# Altium schematic symbol library MBurstSCH.SchLib: 24 symbols
Pins are listed as number, name and electrical type; pins without a type are passive.

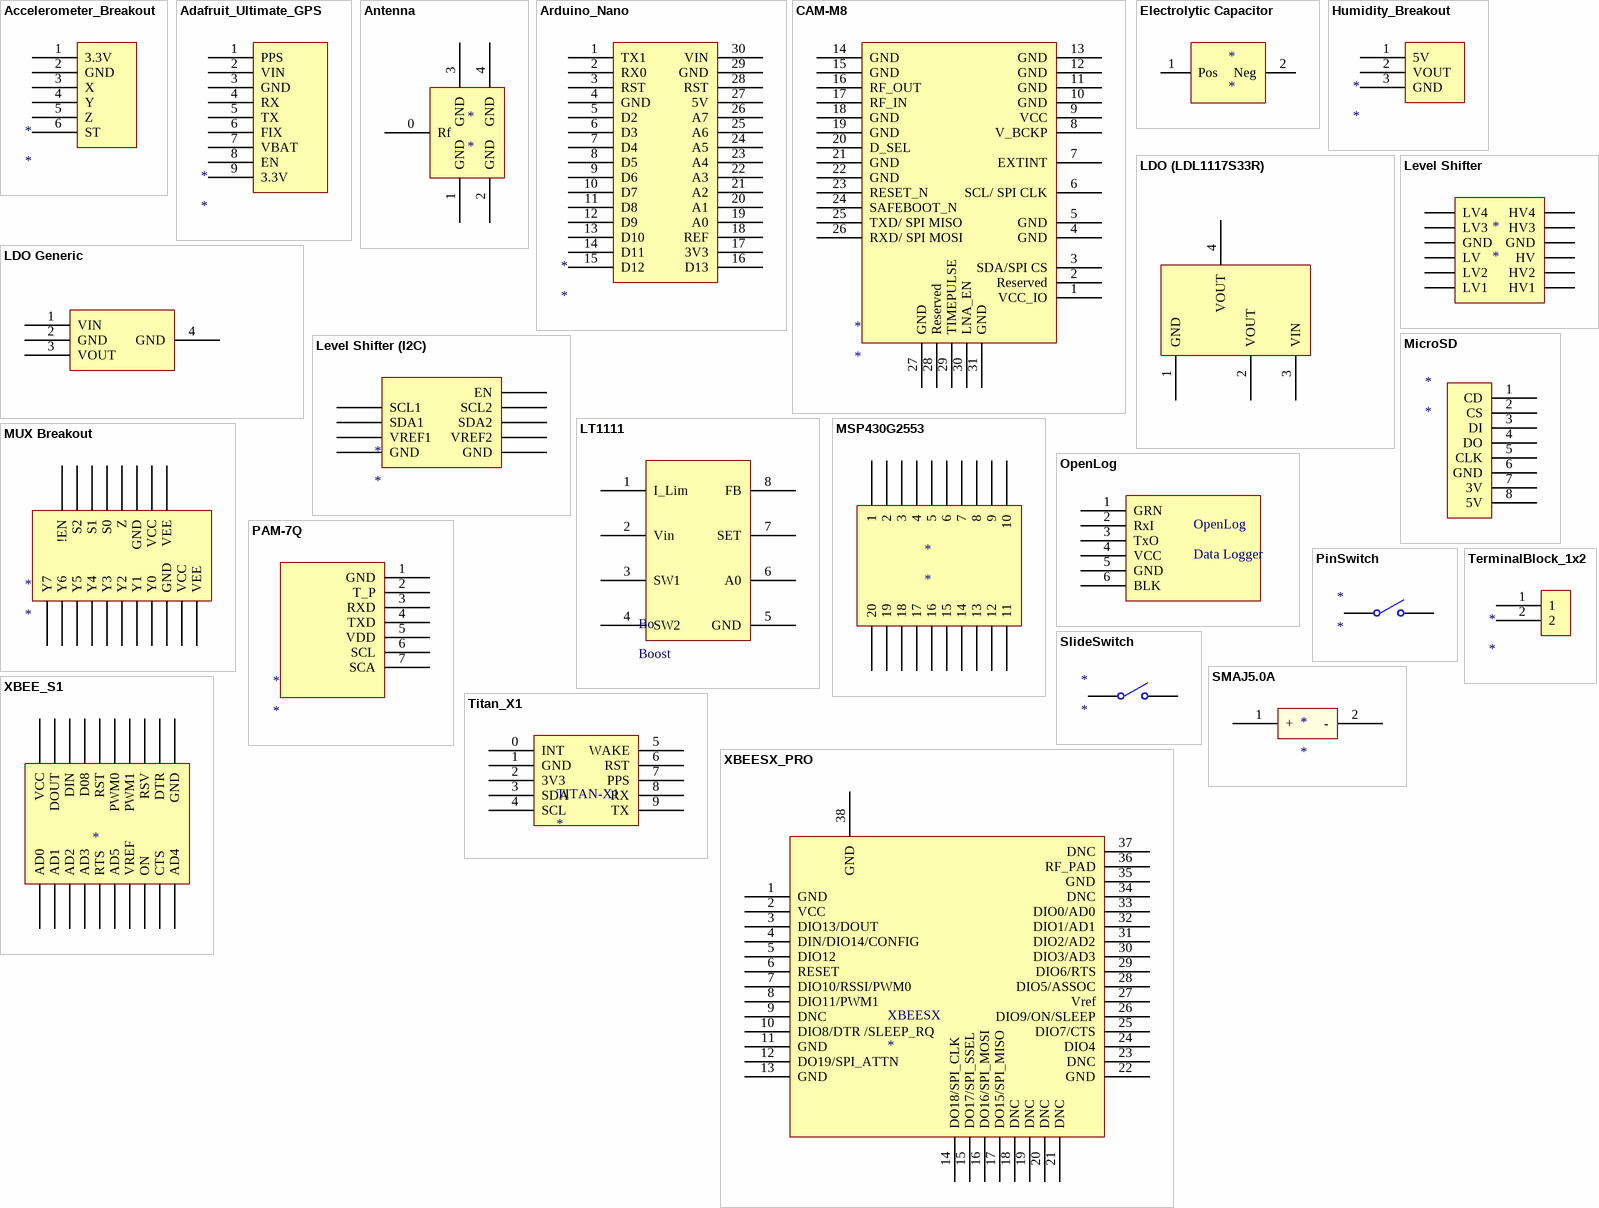
[diagram p0: symbols Accelerometer_Breakout to XBEESX_PRO]

## Accelerometer_Breakout
designator *
footprint Accelerometer_Breakout
pins: 1 3.3V, 2 GND, 3 X, 4 Y, 5 Z, 6 ST

## Adafruit_Ultimate_GPS
designator *
footprint Adafruit_Ultimate_GPS (Adafruit GPS Breakout Board)
pins: 1 PPS, 2 VIN, 3 GND, 4 RX, 5 TX, 6 FIX, 7 VBAT, 8 EN, 9 3.3V

## Antenna
designator *
footprint Antenna
pins: 0 Rf, 1 GND, 2 GND, 3 GND, 4 GND

## Arduino_Nano
designator *
footprint Arduino_Nano
pins: 1 TX1, 2 RX0, 3 RST, 4 GND, 5 D2, 6 D3, 7 D4, 8 D5, 9 D6, 10 D7, 11 D8, 12 D9, 13 D10, 14 D11, 15 D12, 16 D13, 17 3V3, 18 REF, 19 A0, 20 A1, 21 A2, 22 A3, 23 A4, 24 A5, 25 A6, 26 A7, 27 5V, 28 RST, 29 GND, 30 VIN

## CAM-M8
designator *
GPS
pins: 1 VCC_IO, 2 Reserved, 3 SDA/SPI CS, 4 GND, 5 GND, 6 SCL/ SPI CLK, 7 EXTINT, 8 V_BCKP, 9 VCC, 10 GND, 11 GND, 12 GND, 13 GND, 14 GND, 15 GND, 16 RF_OUT, 17 RF_IN, 18 GND, 19 GND, 20 D_SEL, 21 GND, 22 GND, 23 RESET_N, 24 SAFEBOOT_N, 25 TXD/ SPI MISO, 26 RXD/ SPI MOSI, 27 GND, 28 Reserved, 29 TIMEPULSE, 30 LNA_EN, 31 GND

## Electrolytic Capacitor
designator *
footprint Electrolytic Capacitor
pins: 1 Pos, 2 Neg

## Humidity_Breakout
designator *
footprint Humidity_Breakout
pins: 1 5V, 2 VOUT, 3 GND

## LDO (LDL1117S33R)
designator U?, comment TLV1117LV30
footprint SOT223-4N (SOT223, 4-Leads, Body 6.5x3.5mm, Pitch 2.3mm, Lead Span 7mm, IPC Medium Density)
pins: 1 GND, 2 VOUT, 3 VIN, 4 VOUT

## LDO Generic
designator U?, comment TLV1117LV30
footprint SOT223-4N (SOT223, 4-Leads, Body 6.5x3.5mm, Pitch 2.3mm, Lead Span 7mm, IPC Medium Density)
pins: 1 VIN, 2 GND, 3 VOUT, 4 GND

## Level Shifter
designator *
footprint Level Shifter (1X06)
pins: 1 LV4, 2 LV3, 3 GND, 4 LV, 5 LV2, 6 LV1, 7 HV4, 8 HV3, 9 GND, 10 HV, 11 HV2, 12 HV1

## Level Shifter (I2C)
designator *
SparkFun Level Translator Breakout - PCA9306
footprint Level Shifter (1X06)
pins: ?1 SCL1, ?2 SDA1, ?3 VREF1, ?4 GND, ?5 EN, ?6 SCL2, ?7 SDA2, ?8 VREF2, ?9 GND

## LT1111
designator Bo, comment Boost
footprint SO-8
pins: 1 I_Lim, 2 Vin, 3 SW1, 4 SW2, 5 GND, 6 A0, 7 SET, 8 FB

## MicroSD
designator *
pins: 1 CD, 2 CS, 3 DI, 4 DO, 5 CLK, 6 GND, 7 3V, 8 5V

## MSP430G2553
designator *
pins: 1, 2, 3, 4, 5, 6, 7, 8, 9, 10, 11, 12, 13, 14, 15, 16, 17, 18, 19, 20

## MUX Breakout
designator *
footprint MUX Breakout
pins: 1 Y7, 2 Y6, 3 Y5, 4 Y4, 5 Y3, 6 Y2, 7 Y1, 8 Y0, 9 GND, 10 VCC, 11 VEE, 12 !EN, 13 S2, 14 S1, 15 S0, 16 Z, 17 GND, 18 VCC, 19 VEE

## OpenLog
designator OpenLog, comment Data Logger
footprint OpenLog
pins: 1 GRN "OpenLog", 2 RxI "OpenLog", 3 TxO "OpenLog", 4 VCC "OpenLog", 5 GND "OpenLog", 6 BLK "OpenLog"

## PAM-7Q
designator *
GPS
footprint PAM7Q
pins: 1 GND, 2 T_P, 3 RXD, 4 TXD, 5 VDD, 6 SCL, 7 SCA

## PinSwitch
designator *
footprint SwitchPin
pins: 0 COMMON, 1 NO

## SlideSwitch
designator *
footprint SlideSwitch
pins: 0 COMMON, 1 NO

## SMAJ5.0A
designator *
Circuit Protection Diode
footprint SMAJ5.0A
pins: 1 +, 2 -

## TerminalBlock_1x2
designator *
pins: 1, 2

## Titan_X1
designator TITAN-X1
pins: 0 INT, 1 GND, 2 3V3, 3 SDA, 4 SCL, 5 WAKE, 6 RST, 7 PPS, 8 RX, 9 TX

## XBEE_S1
designator ?
pins: 1 VCC, 2 DOUT, 3 DIN, 4 D08, 5 RST, 6 PWM0, 7 PWM1, 8 RSV, 9 DTR, 10 GND, 11 AD4, 12 CTS, 13 ON, 14 VREF, 15 AD5, 16 RTS, 17 AD3, 18 AD2, 19 AD1, 20 AD0

## XBEESX_PRO
designator XBEESX
footprint XBEESX_PRO (SOP, 32-Leads, Body 33.78x19.10mm, Pitch 2.00mm, IPC Medium Density)
pins: 1 GND, 2 VCC, 3 DIO13/DOUT, 4 DIN/DIO14/CONFIG, 5 DIO12, 6 RESET, 7 DIO10/RSSI/PWM0, 8 DIO11/PWM1, 9 DNC, 10 DIO8/DTR /SLEEP_RQ , 11 GND, 12 DO19/SPI_ATTN, 13 GND, 14 DO18/SPI_CLK, 15 DO17/SPI_SSEL, 16 DO16/SPI_MOSI, 17 DO15/SPI_MISO, 18 DNC, 19 DNC, 20 DNC, 21 DNC, 22 GND, 23 DNC, 24 DIO4, 25 DIO7/CTS, 26 DIO9/ON/SLEEP, 27 Vref, 28 DIO5/ASSOC, 29 DIO6/RTS, 30 DIO3/AD3, 31 DIO2/AD2, 32 DIO1/AD1, 33 DIO0/AD0, 34 DNC, 35 GND, 36 RF_PAD, 37 DNC, 38 GND